# Altium footprint library qlib.PcbLib: 10 footprints
Each footprint in its own frame and in the unit in brackets; x right, y up, seen from the top. Pads: shape width x height; smd on the part's side, far side on the other; paste and mask are expansions set on the pad; w line width, h text height; cw(c..) or ccw(c..) is an arc to the next point about the centre after c.
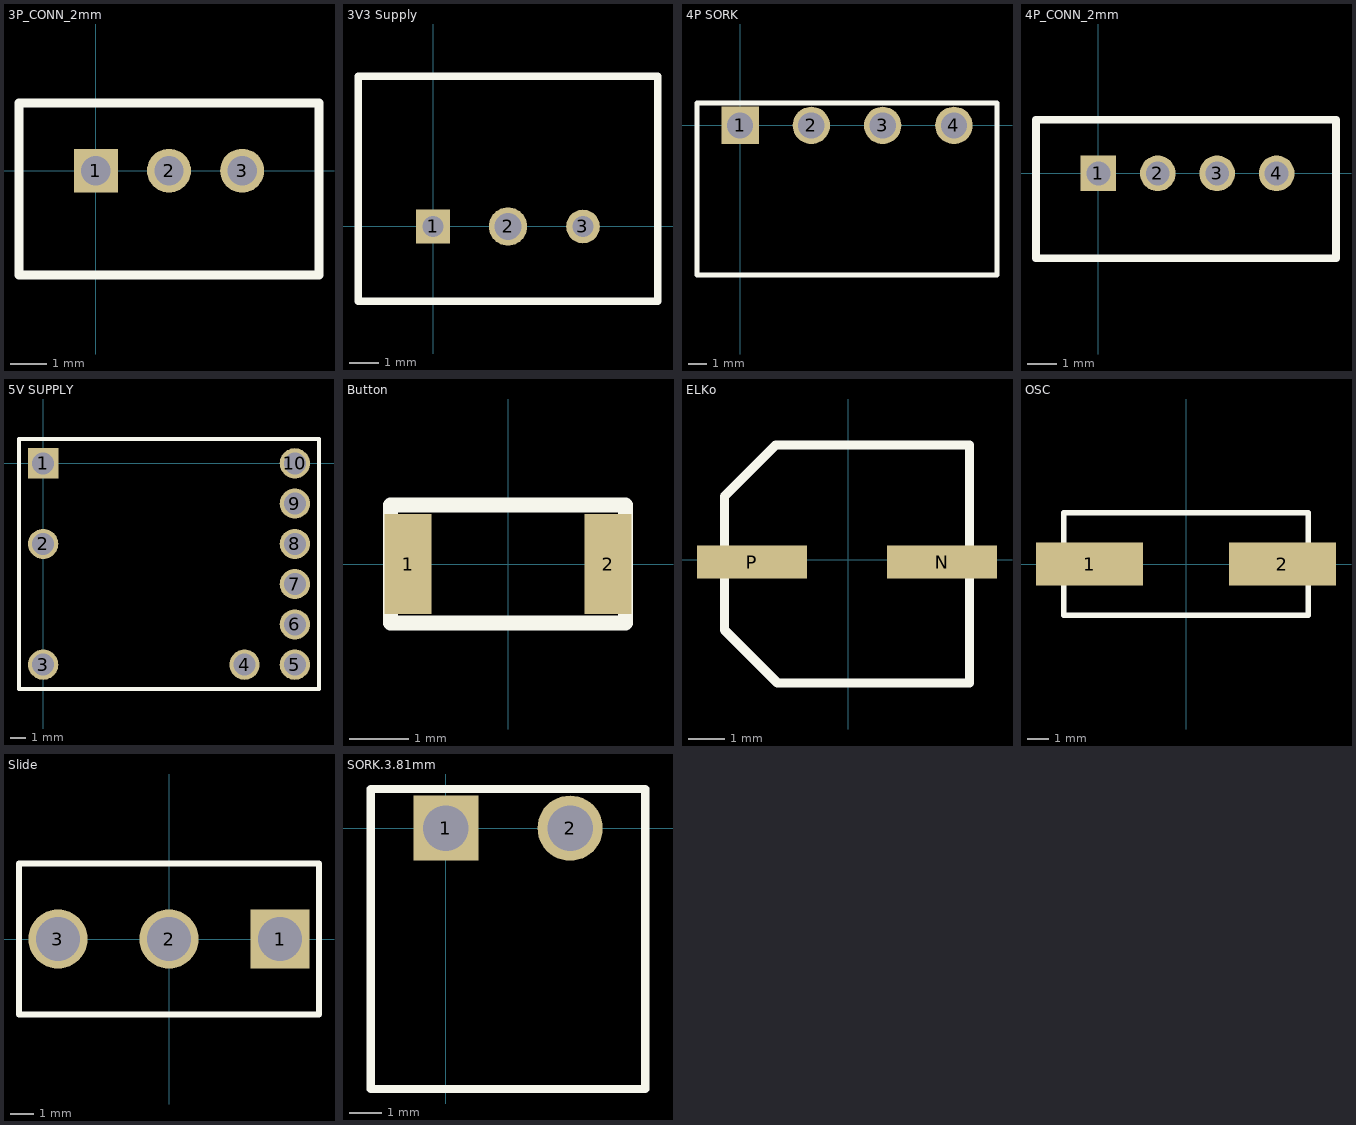
[diagram p0: the footprints below, top view; thin cyan lines are the x and y axes]

## 3P_CONN_2mm [mm]
pads (3):
  rect 1.2x1.2 hole 0.8: 1(0,0)
  round 1.2 hole 0.8: 2(2,0) 3(4,0)
Top Overlay:
  lines w0.254: -2.1,-2.85 -2.1,1.85 6.1,1.85 6.1,-2.85 -2.1,-2.85

## 3V3 Supply [mm]
pads (3):
  rect 1.143x1.143 hole 0.7: 1(0,0)
  round 1.3 hole 0.9: 2(2.54,0)
  round 1.143 hole 0.7: 3(5.08,0)
Top Overlay:
  lines w0.254: -2.54,-2.54 -2.54,5.08 7.62,5.08 7.62,-2.54 -2.54,-2.54

## 4P SORK [mm]
pads (4):
  rect 2x2 hole 1.4: 1(0,0)
  round 2 hole 1.4: 2(3.81,0) 3(7.62,0) 4(11.43,0)
Top Overlay:
  lines w0.254: -2.3,-8 -2.3,1.2 13.73,1.2 13.73,-8 -2.3,-8

## 4P_CONN_2mm [mm]
pads (4):
  rect 1.2x1.2 hole 0.8: 1(0,0)
  round 1.2 hole 0.8: 2(2,0) 3(4,0) 4(6,0)
Top Overlay:
  lines w0.254: -2.1,-2.85 8,-2.85 8,1.8 -2.1,1.8 -2.1,-2.85

## 5V SUPPLY [mil]
pads (10):
  rect 75x75 hole 55: 1(0,0)
  round 75 hole 55: 2(0,-200) 3(0,-500) 4(500,-500) 5(625,-500) 6(625,-400) 7(625,-300) 8(625,-200) 9(625,-100) 10(625,0)
Top Overlay:
  lines w10: -60,-560 685,-560 685,60 -60,60 -60,-560

## Button [mm]
pads (2):
  rect 0.8x1.7 smd: 1(-1.7,0) 2(1.7,0)
Top Overlay:
  lines w0.254: -2,-1 -2,1 2,1 2,-1 -2,-1

## ELKo [mm]
pads (2):
  rect 3x0.9 smd: N(2.564,-0.068) P(-2.636,-0.068)
Top Overlay:
  lines w0.254: -3.386,-1.92 -3.386,1.732 -1.986,3.132 3.314,3.132 3.314,-3.368 -1.938,-3.368 -3.386,-1.92
3D body: height 0.3, standoff 0, extent -3.436,-3.368 3.164,3.232
3D body: height 6.3, standoff 0, extent -3.286,-3.205 2.989,3.082

## OSC [mm]
pads (2):
  rect 5x2 smd: 1(-4.5,0) 2(4.5,0)
Top Overlay:
  lines w0.254: -5.7,-2.4 -5.7,2.4 5.7,2.4 5.7,-2.4 -5.7,-2.4
3D body: height 4.4, standoff 0, extent -5.7,-2.4 5.7,2.4

## Slide [mm]
pads (3):
  rect 2.5x2.5 hole 1.85: 1(4.7,0)
  round 2.5 hole 1.85: 2(0,0) 3(-4.7,0)
Top Overlay:
  lines w0.254: -6.35,-3.2 -6.35,3.2 6.35,3.2 6.35,-3.2 -6.35,-3.2

## SORK.3.81mm [mm]
pads (2):
  rect 2x2 hole 1.4: 1(0,0)
  round 2 hole 1.4: 2(3.81,0)
Top Overlay:
  lines w0.254: -2.3,-8 -2.3,1.2 6.11,1.2 6.11,-8 -2.3,-8